# Altium footprint library 主板.PcbLib: 37 footprints (part 2 of 3)
Each footprint in its own frame and in the unit in brackets; x right, y up, seen from the top. Pads: shape width x height; smd on the part's side, far side on the other; paste and mask are expansions set on the pad; w line width, h text height; cw(c..) or ccw(c..) is an arc to the next point about the centre after c.
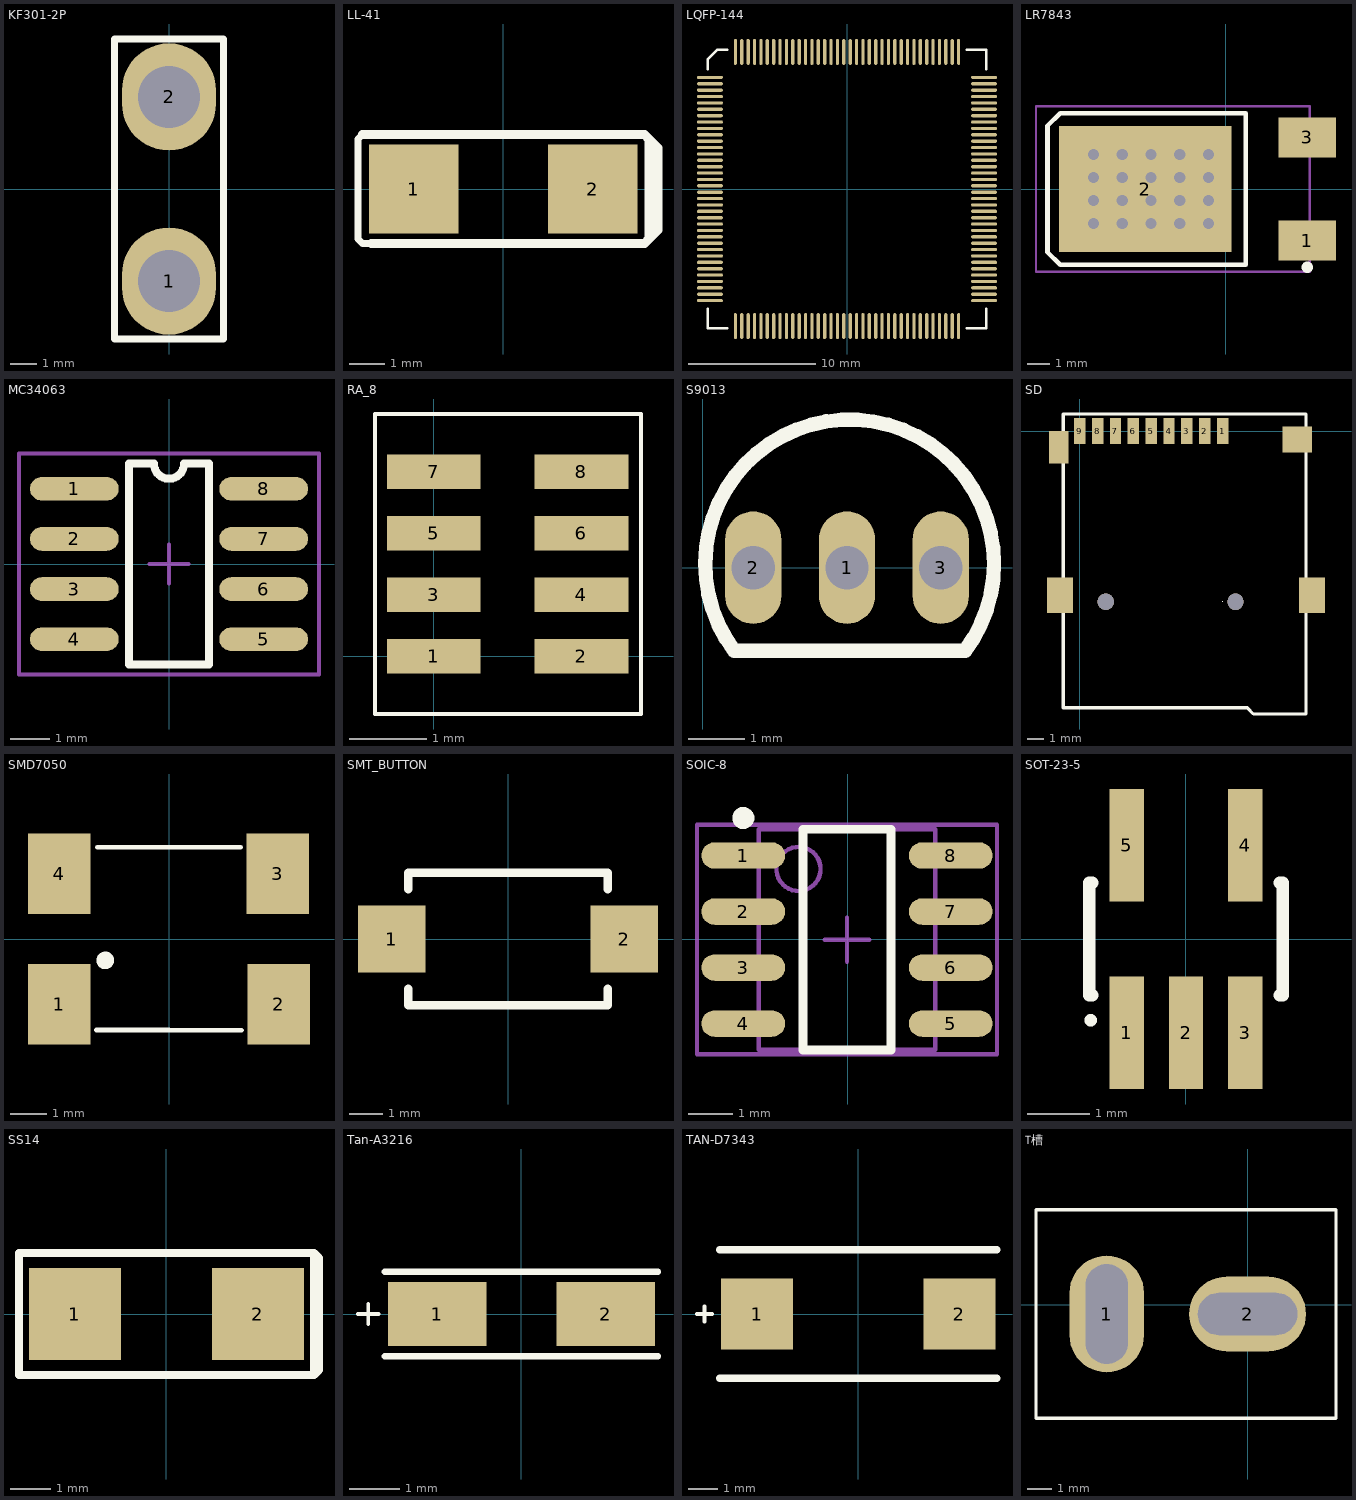
[diagram p1: the footprints below, top view; thin cyan lines are the x and y axes]

## KF301-2P [mm]
pads (2):
  oval 3.5x4 hole 2.3 paste+0: 1(0,-3.429)
  oval 3.5x4 hole 2.3: 2(0,3.429)
Top Overlay:
  lines w0.254: -2.032,-5.588 2.032,-5.588 2.032,5.588 -2.032,5.588 -2.032,-5.588

## LL-41 [mm]
pads (2):
  rect 2.5x2.5 smd: 1(-2.5,0) 2(2.5,0)
Top Overlay:
  lines w0.203: -3.937,1.524 -4.064,1.397 -4.064,-1.397 -3.937,-1.524 -3.683,-1.524
  lines w0.254: -3.937,1.524 3.937,1.524 4.064,1.397 ; -3.683,-1.524 3.937,-1.524 4.064,-1.397 ; 4.064,-1.397 4.318,-1.143 4.318,1.143 4.064,1.397 ; 4.064,-1.397 4.064,-1.27 4.064,1.397

## LQFP-144 [mil]
pads (144):
  oval 80x10 smd: 1(-423.07,344.49) 2(-423.07,324.8) 3(-423.07,305.12) 4(-423.07,285.43) 5(-423.07,265.75) 6(-423.07,246.06) 7(-423.07,226.38) 8(-423.07,206.69) 9(-423.07,187.01) 10(-423.07,167.32) 11(-423.07,147.64) 12(-423.07,127.95) 13(-423.07,108.27) 14(-423.07,88.58) 15(-423.07,68.9) 16(-423.07,49.21) 17(-423.07,29.53) 18(-423.07,9.84) 19(-423.07,-9.84) 20(-423.07,-29.53) 21(-423.07,-49.21) 22(-423.07,-68.9) 23(-423.07,-88.58) 24(-423.07,-108.27) 25(-423.07,-127.95) 26(-423.07,-147.64) 27(-423.07,-167.32) 28(-423.07,-187.01) 29(-423.07,-206.69) 30(-423.07,-226.38) 31(-423.07,-246.06) 32(-423.07,-265.75) 33(-423.07,-285.43) 34(-423.07,-305.12) 35(-423.07,-324.8) 36(-423.07,-344.49) 73(423.07,-344.49) 74(423.07,-324.8) 75(423.07,-305.12) 76(423.07,-285.43) 77(423.07,-265.75) 78(423.07,-246.06) 79(423.07,-226.38) 80(423.07,-206.69) 81(423.07,-187.01) 82(423.07,-167.32) 83(423.07,-147.64) 84(423.07,-127.95) 85(423.07,-108.27) 86(423.07,-88.58) 87(423.07,-68.9) 88(423.07,-49.21) 89(423.07,-29.53) 90(423.07,-9.84) 91(423.07,9.84) 92(423.07,29.53) 93(423.07,49.21) 94(423.07,68.9) 95(423.07,88.58) 96(423.07,108.27) 97(423.07,127.95) 98(423.07,147.64) 99(423.07,167.32) 100(423.07,187.01) 101(423.07,206.69) 102(423.07,226.38) 103(423.07,246.06) 104(423.07,265.75) 105(423.07,285.43) 106(423.07,305.12) 107(423.07,324.8) 108(423.07,344.49)
  oval 10x80 smd: 37(-344.49,-423.07) 38(-324.8,-423.07) 39(-305.12,-423.07) 40(-285.43,-423.07) 41(-265.75,-423.07) 42(-246.06,-423.07) 43(-226.38,-423.07) 44(-206.69,-423.07) 45(-187.01,-423.07) 46(-167.32,-423.07) 47(-147.64,-423.07) 48(-127.95,-423.07) 49(-108.27,-423.07) 50(-88.58,-423.07) 51(-68.9,-423.07) 52(-49.21,-423.07) 53(-29.53,-423.07) 54(-9.84,-423.07) 55(9.84,-423.07) 56(29.53,-423.07) 57(49.21,-423.07) 58(68.9,-423.07) 59(88.58,-423.07) 60(108.27,-423.07) 61(127.95,-423.07) 62(147.64,-423.07) 63(167.32,-423.07) 64(187.01,-423.07) 65(206.69,-423.07) 66(226.38,-423.07) 67(246.06,-423.07) 68(265.75,-423.07) 69(285.43,-423.07) 70(305.12,-423.07) 71(324.8,-423.07) 72(344.49,-423.07) 109(344.49,423.07) 110(324.8,423.07) 111(305.12,423.07) 112(285.43,423.07) 113(265.75,423.07) 114(246.06,423.07) 115(226.38,423.07) 116(206.69,423.07) 117(187.01,423.07) 118(167.32,423.07) 119(147.64,423.07) 120(127.95,423.07) 121(108.27,423.07) 122(88.58,423.07) 123(68.9,423.07) 124(49.21,423.07) 125(29.53,423.07) 126(9.84,423.07) 127(-9.84,423.07) 128(-29.53,423.07) 129(-49.21,423.07) 130(-68.9,423.07) 131(-88.58,423.07) 132(-108.27,423.07) 133(-127.95,423.07) 134(-147.64,423.07) 135(-167.32,423.07) 136(-187.01,423.07) 137(-206.69,423.07) 138(-226.38,423.07) 139(-246.06,423.07) 140(-265.75,423.07) 141(-285.43,423.07) 142(-305.12,423.07) 143(-324.8,423.07) 144(-344.49,423.07)
Top Overlay:
  lines w8: -430,-370 -430,-430 -370,-430 ; -430,370 -430,400 -400,430 -370,430 ; 370,-430 430,-430 430,-370 ; 370,430 430,430 430,370

## LR7843 [mm]
pads (3):
  rect 2.54x1.778 smd: 1(3.6,-2.28) 3(3.6,2.28)
  rect 7.6x5.55 smd: 2(-3.556,0)
via -5.842,1.524 diameter 0.8 hole 0.5
via -5.842,0.508 diameter 0.8 hole 0.5
via -5.842,-0.508 diameter 0.8 hole 0.5
via -4.572,1.524 diameter 0.8 hole 0.5
via -4.572,0.508 diameter 0.8 hole 0.5
via -4.572,-0.508 diameter 0.8 hole 0.5
via -4.572,-1.524 diameter 0.8 hole 0.5
via -3.302,1.524 diameter 0.8 hole 0.5
via -3.302,0.508 diameter 0.8 hole 0.5
via -3.302,-0.508 diameter 0.8 hole 0.5
via -2.032,1.524 diameter 0.8 hole 0.5
via -2.032,0.508 diameter 0.8 hole 0.5
via -2.032,-1.524 diameter 0.8 hole 0.5
via -2.032,-0.508 diameter 0.8 hole 0.5
via -3.302,-1.524 diameter 0.8 hole 0.5
via -5.842,-1.524 diameter 0.8 hole 0.5
via -0.762,0.508 diameter 0.8 hole 0.5
via -0.762,1.524 diameter 0.8 hole 0.5
via -0.762,-0.508 diameter 0.8 hole 0.5
via -0.762,-1.524 diameter 0.8 hole 0.5
Top Overlay:
  circle w0.25: c3.6,-3.455 r0.125
  lines w0.2: -7.874,-2.794 -7.318,-3.35 0.889,-3.35 0.889,3.35 -7.318,3.35 -7.874,2.794 -7.874,-2.794
Mechanical 15:
  lines w0.1: -1.85,0 -0.85,0 ; -1.35,-0.5 -1.35,0.5 ; -8.382,-3.65 3.705,-3.65 3.705,3.65 -8.382,3.65 -8.382,-3.65

## MC34063 [mm]
pads (8):
  oval 2.25x0.6 smd: 1(-2.4,1.905) 2(-2.4,0.635) 3(-2.4,-0.635) 4(-2.4,-1.905) 5(2.4,-1.905) 6(2.4,-0.635) 7(2.4,0.635) 8(2.4,1.905)
Top Overlay:
  lines w0.203: -0.395,2.55 -1.016,2.55 -1.016,-2.55 1.016,-2.55 1.016,2.55 0.381,2.55 ; -0.381,2.54 ccw(c0,2.54) 0.381,2.54
Mechanical 15:
  lines w0.1: -0.5,0 0.5,0 ; 0,-0.5 0,0.5 ; -3.8,-2.8 -3.8,2.8 3.8,2.8 3.8,-2.8 -3.8,-2.8

## RA_8 [mm]
pads (8):
  rect 1.22x0.45 smd: 1(0,0) 2(1.92,0) 3(0,0.8) 4(1.92,0.8) 5(0,1.6) 6(1.92,1.6) 7(0,2.4) 8(1.92,2.4)
Top Overlay:
  lines w0.05: -0.762,-0.75 -0.762,3.15 2.692,3.15 2.692,-0.75 -0.762,-0.75

## S9013 [mil]
pads (3):
  oval 39x78 hole 30: 1(100,0) 2(35,0) 3(165,0)
Top Overlay:
  lines w10: 181.7,-57.48 21.68,-57.48 cw(c101.82,2.55) 181.84,-57.63

## SD [mm]
pads (13):
  rect 0.7x1.6 smd: 1(8.8,0) 2(7.7,0) 3(6.6,0) 4(5.5,0) 5(4.4,0) 6(3.3,0) 7(2.2,0) 8(1.1,0) 9(0,0)
  rect 1.2x2 smd: ""(-1.3,-1)
  rect 1.6x2.2 smd: ""(-1.21,-10.1) ""(14.3,-10.1)
  rect 1.8x1.6 smd: ""(13.4,-0.5)
via 9.6,-10.5 diameter 1 hole 1
via 1.6,-10.5 diameter 1 hole 1
Top Overlay:
  lines w0.01: 8.8,-10.5 8.8,-10.49
  lines w0.2: -1.01,1.06 13.93,1.06 13.93,-17.38 13.94,-17.39 ; -0.99,1.06 -1.01,1.04 -1.01,-17.03 -1,-17.04 -0.28,-17.04 10.32,-17.04 10.7,-17.42 13.94,-17.42

## SMD7050 [mil]
pads (4):
  rect 66.93x86.61 smd: 1(-118,-70) 2(118,-70) 3(117,70) 4(-118,70)
Top Overlay:
  circle w10: c-68.47,-23 r4.47
  lines w5: -78,-97.85 0,-97.85 ; -77,98.85 0,98.85 77,98.85 ; 0,-98 78,-98

## SMT_BUTTON [mil]
pads (2):
  rect 80x80 smd: 1(-137.8,0) 2(137.8,0)
Top Overlay:
  lines w10: -118.11,-59.06 -118.11,-78.74 118.11,-78.74 118.11,-59.06 ; -118.11,59.06 -118.11,78.74 118.11,78.74 118.11,59.06

## SOIC-8 [mm]
pads (8):
  oval 1.9x0.6 smd: 1(-2.37,1.895) 2(-2.37,0.625) 3(-2.37,-0.645) 4(-2.37,-1.915) 5(2.33,-1.915) 6(2.33,-0.645) 7(2.33,0.625) 8(2.33,1.895)
Top Overlay:
  circle w0.25: c-2.37,2.745 r0.125
  lines w0.2: -1.02,-2.51 -1.02,2.49 0.98,2.49 0.98,-2.51 -1.02,-2.51
Mechanical 13:
  circle w0.1: c-1.12,1.59 r0.5
  lines w0.1: -2.02,-2.51 -2.02,2.49 1.98,2.49 1.98,-2.51 -2.02,-2.51
Mechanical 15:
  lines w0.1: -0.52,-0.01 0.48,-0.01 ; -0.02,-0.51 -0.02,0.49 ; -3.42,-2.61 -3.42,2.59 3.38,2.59 3.38,-2.61 -3.42,-2.61
3D body: height 1.75, standoff 0, extent -2.02,-2.51 1.98,2.49

## SOT-23-5 [mm]
pads (5):
  rect 0.55x1.8 smd: 1(-0.95,-1.5) 2(0,-1.5) 3(0.95,-1.5) 4(0.95,1.5) 5(-0.95,1.5)
Top Overlay:
  circle w0.1: c-1.525,-1.3 r0.05
  lines w0.2: -1.5,-0.9 -1.55,-0.9 -1.55,0.9 -1.5,0.9 ; 1.5,-0.9 1.55,-0.9 1.55,0.9 1.5,0.9

## SS14 [mm]
pads (2):
  rect 2.3x2.3 smd: 1(-2.286,0) 2(2.286,0)
Top Overlay:
  lines w0.2: -3.683,-1.524 -3.683,1.524 3.683,1.524 3.683,-1.524 -3.683,-1.524
  lines w0.203: 3.683,-1.524 3.81,-1.397 3.81,1.397 3.683,1.524

## Tan-A3216 [mil]
pads (2):
  rect 77.36x50 smd: 1(-66,0) 2(66,0)
Top Overlay:
  lines w3: -128,0 -112,0 ; -120,-8 -120,8
  lines w5: -107,-33 107,-33 ; -107,33 107,33

## TAN-D7343 [mm]
pads (2):
  rect 2.425x2.41 smd: 1(-3.429,0) 2(3.429,0)
Top Overlay:
  lines w0.127: -5.461,0 -4.953,0 ; -5.207,-0.254 -5.207,0.254
  lines w0.254: -4.699,-2.184 4.699,-2.184 ; -4.699,2.184 4.699,2.184

## T槽 [mm]
pads (2):
  oval 3x4.7 hole 1.7 slot 4 at 90 deg: 1(-5.664,-0.381)
  oval 4.7x3 hole 1.7 slot 4 at 0 deg: 2(0,-0.381)
Top Overlay:
  lines w0.127: -8.509,-4.572 3.556,-4.572 ; -8.509,-4.547 -8.509,3.81 3.556,3.81 3.556,-4.547